# Altium schematic symbol library Uklady_i_zlacza.SchLib: 8 symbols
Pins are listed as number, name and electrical type; pins without a type are passive.

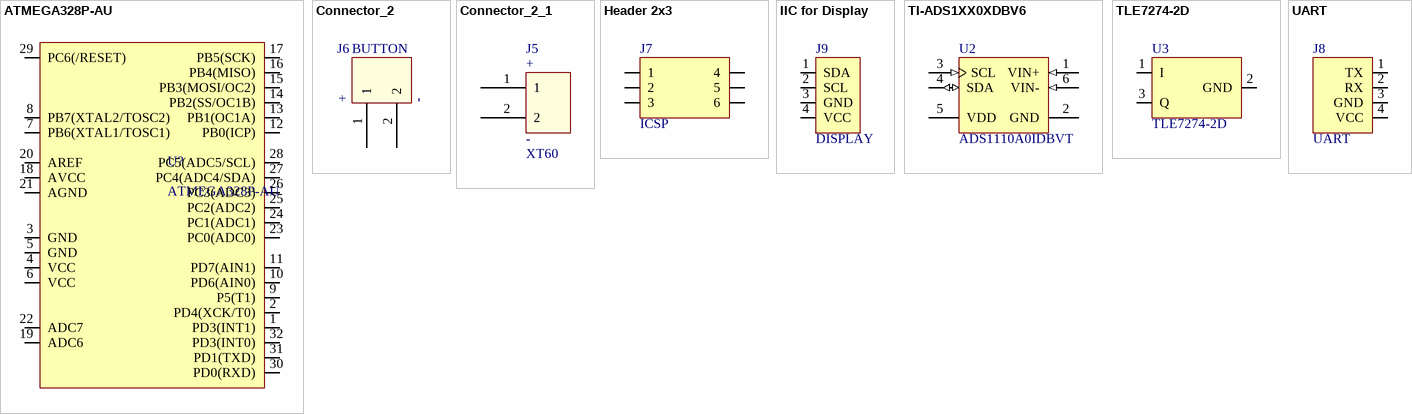
[diagram p0: symbols ATMEGA328P-AU to UART]

## ATMEGA328P-AU
designator U?
8-bit Microcontrollers - MCU 32KB In-system Flash 20MHz 1.8V-5.5V
footprint ATMEGA328P-AU (TQFP, 32-Leads, Body 7,00x7,00mm, Pitch 0,80mm, IPC Medium Density)
pins: 1 PD3(INT1), 2 PD4(XCK/T0), 3 GND, 4 VCC, 5 GND, 6 VCC, 7 PB6(XTAL1/TOSC1), 8 PB7(XTAL2/TOSC2), 9 P5(T1), 10 PD6(AIN0), 11 PD7(AIN1), 12 PB0(ICP), 13 PB1(OC1A), 14 PB2(SS/OC1B), 15 PB3(MOSI/OC2), 16 PB4(MISO), 17 PB5(SCK), 18 AVCC, 19 ADC6, 20 AREF, 21 AGND, 22 ADC7, 23 PC0(ADC0), 24 PC1(ADC1), 25 PC2(ADC2), 26 PC3(ADC3), 27 PC4(ADC4/SDA), 28 PC5(ADC5/SCL), 29 PC6(/RESET), 30 PD0(RXD), 31 PD1(TXD), 32 PD3(INT0)

## Connector_2
designator J6, comment BUTTON
footprint HEADER1x2
pins: 1, 2
text: +; -

## Connector_2_1
designator J5, comment XT60
footprint Phoenix
footprint XT60_FEMALE_PANEL
pins: 1, 2
text: +; -

## Header 2x3
designator J7, comment ICSP
footprint Header2x3 - duplicate
pins: 1, 2, 3, 4, 5, 6

## IIC for Display
designator J9, comment DISPLAY
footprint Header1x4
pins: 1 SDA, 2 SCL, 3 GND, 4 VCC

## TI-ADS1XX0XDBV6
designator U2, comment ADS1110A0IDBVT
16-Bit Delta-Sigma ADC with Internal Reference, PGA and Oscillator, I2C Serial Interface, -40 to 85 degC, 6-pin SOT23 (DBV6), Green (RoHS & no Sb/Br); Manufacturer: Texas Instruments; SubFamily: Precision ADC (<=10MSPS); Sample Rate (max)(SPS): 240; Digital Supply(Max)(V): 5.5; Interface: Serial I2C; Digital Supply(Min)(V): 2.7; Resolution(Bits): 16; # Input Channels: 1; PackageDescription: 6-Pin Plastic Small Outline, Body 1.6 x 2.9 mm, Pitch 0.95 mm; ComponentLink2Description: Datasheet; ComponentLink3URL: http://www.ti.com/litv/pdf/mpds026h; PackageReference: DBV6; ComponentLink1Description: Manufacturer URL; Analog Voltage AV/DD(Max)(V): 5.5; Mounting Technology: Surface Mount; ComponentLink3Description: Package Specification; PartNumber: ADS1110A0IDBVT; Architecture: Delta-Sigma; ComponentLink1URL: http://www.ti.com/; Code_JEDEC: MO-178; ComponentLink2URL: http://www.ti.com/general/docs/lit/getliterature.tsp?genericPartNumber=ADS1110&fileType=pdf; DatasheetVersion: SBAS276A; Analog Voltage AV/DD(Min)(V): 2.7; PackageVersion: 4073253-5/K, 03/2006; Eco-Plan: Green (RoHS & no Sb/Br)
footprint TI-DBV6_N (SOT23, 6-Leads, Body 2.9x1.6mm, Pitch 0.95mm, IPC Medium Density)
footprint TI-DBV6_M (SOT23, 6-Leads, Body 2.9x1.6mm, Pitch 0.95mm, IPC Low Density)
footprint TI-DBV6_L (SOT23, 6-Leads, Body 2.9x1.6mm, Pitch 0.95mm, IPC High Density)
pins: 1 VIN+ (in), 2 GND (power), 3 SCL (in), 4 SDA (io), 5 VDD (power), 6 VIN- (in)

## TLE7274-2D
designator U3
footprint TO228P998X235-3N-2-V (TO,2.28mm pitch;2 pin,9.98mm L X 6.12mm W X 2.35mm H body)
pins: 1 I, 2 GND, 3 Q

## UART
designator J8
footprint Header1x4
pins: 1 TX, 2 RX, 3 GND, 4 VCC